# Altium footprint library CC3200.PcbLib: 26 footprints (part 1 of 2)
Each footprint in its own frame and in the unit in brackets; x right, y up, seen from the top. Pads: shape width x height; smd on the part's side, far side on the other; paste and mask are expansions set on the pad; w line width, h text height; cw(c..) or ccw(c..) is an arc to the next point about the centre after c.
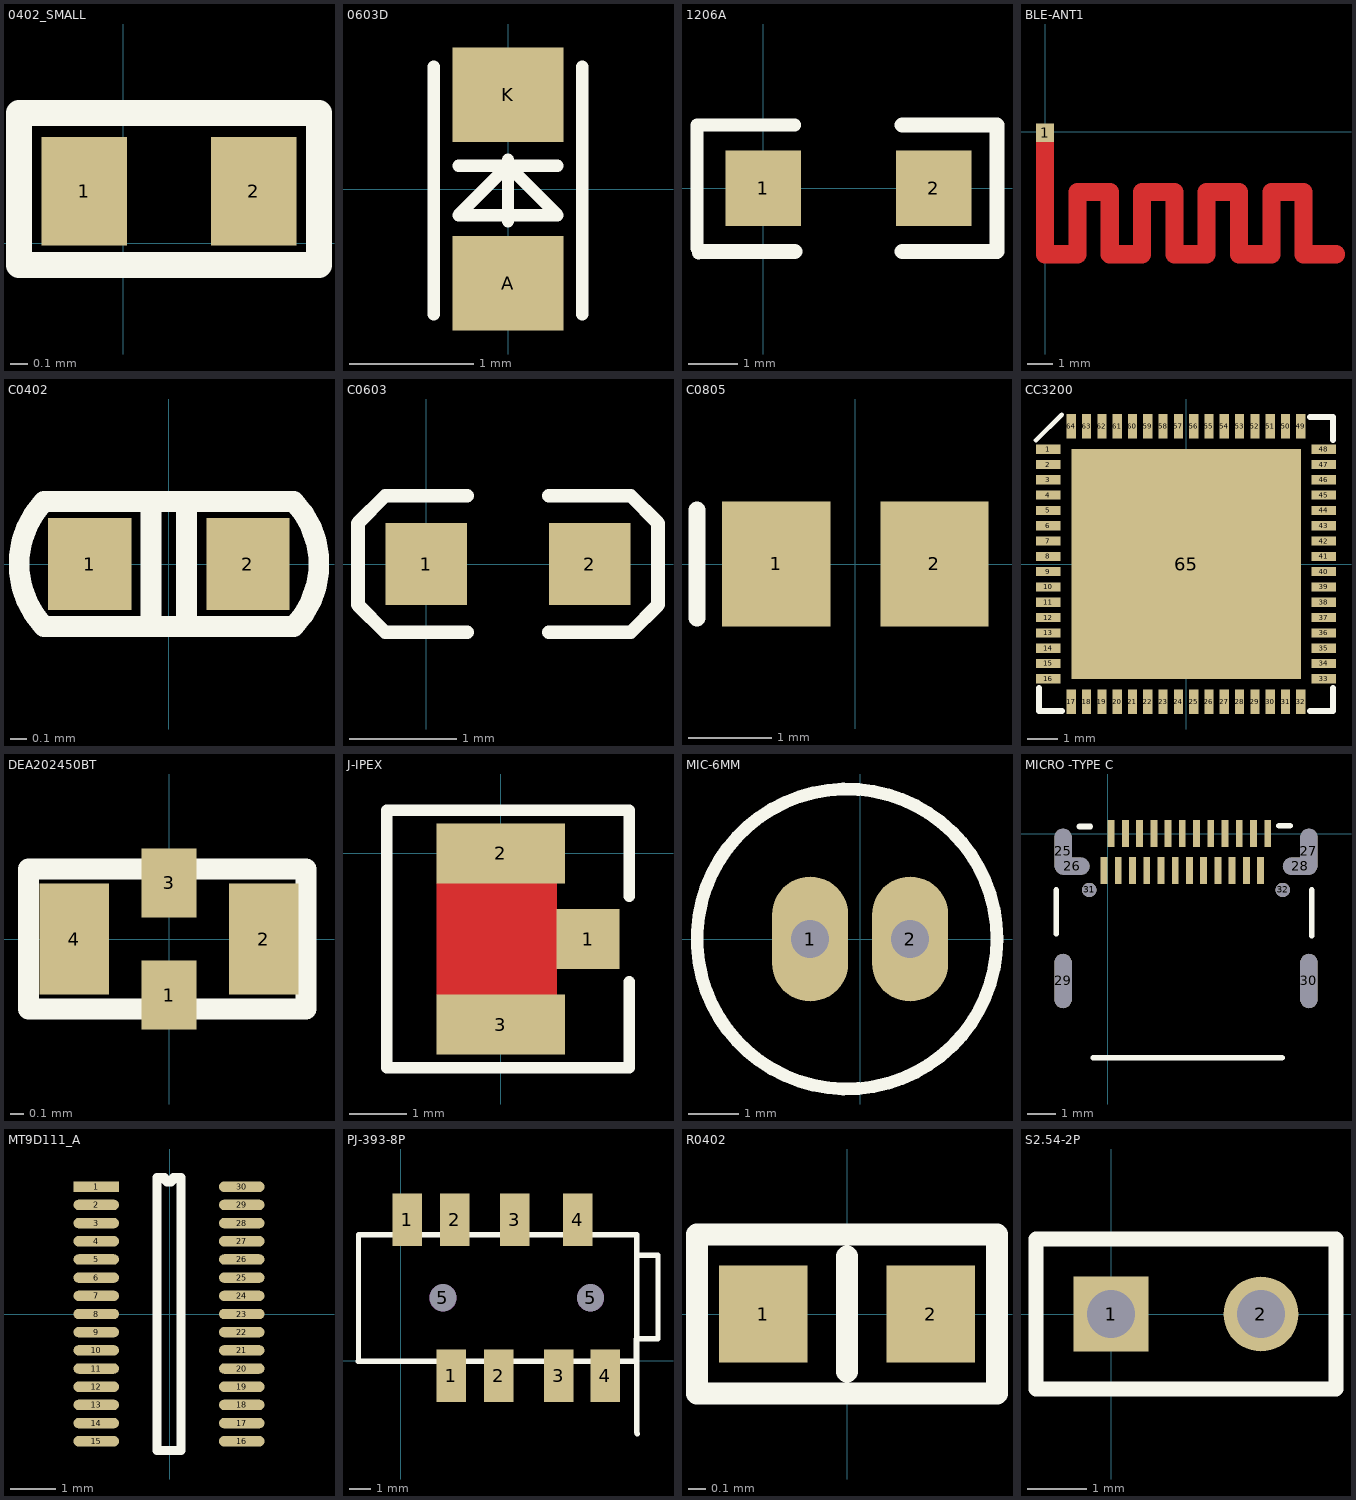
[diagram p0: the footprints below, top view; thin cyan lines are the x and y axes]

## 0402_SMALL [mil]
pads (2):
  rect 19.68x25 smd: 1(-9,12) 2(30,12)
Top Overlay:
  lines w6: 45,-4 45,30 ; 45,30 45,-5 -24,-5 -24,30 45,30

## 0603D [mil]
pads (2):
  rect 35.43x30 smd: A(0,-30) K(0,30)
Top Overlay:
  lines w3.94: -23.62,-39.81 -23.62,38.93 ; -15.75,7.43 15.75,7.43 ; 0,-10.28 0,9.4 ; 23.62,-39.81 23.62,38.93 ; -15.75,-8.31 15.75,-8.31 0,7.43 -15.75,-8.31

## 1206A [mil]
pads (2):
  rect 60x60 smd: 1(0,0) 2(135,0)
Top Overlay:
  lines w10: -52.36,-47.64 -52.36,50 -50,50 25,50 ; -51.18,-51.18 -50,-50
  lines w12: -50,-50 25,-50 ; 110,-50 185,-50 185,50 110,50

## BLE-ANT1 [mm]
pads (1):
  rect 0.7x0.7 smd: 1(0,-0.035)
Top Layer:
  lines w0.7: 0,-0.101 0,-2.321 ; 11.25,-4.734 10,-4.734 10,-2.321 8.75,-2.321 8.75,-4.734 7.5,-4.734 7.5,-2.321 6.25,-2.321 6.25,-4.734 5,-4.734 5,-2.321 3.75,-2.321 3.75,-4.734 2.5,-4.734 2.5,-2.321 1.25,-2.321 1.25,-4.734 0,-4.734 0,-2.418 ; 0,-2.418 0,-2.321 ; 0,-2.418 0,-2.321
Top Paste:
  lines w0.7: -0.001,-2.321 -0.001,-4.734 1.249,-4.734 1.249,-2.321 2.499,-2.321 2.499,-4.734 3.749,-4.734 3.749,-2.321 4.999,-2.321 4.999,-4.734 6.249,-4.734 6.249,-2.321 7.499,-2.321 7.499,-4.734 8.749,-4.734 8.749,-2.321 9.999,-2.321 9.999,-4.734 11.249,-4.734

## C0402 [mil]
pads (2):
  rect 20x22 smd: 1(-19,0) 2(19,0)
Top Overlay:
  lines w5: -4.25,-13 -4.25,13 ; 4.25,-13 4.25,13 ; -30,-15 cw(c-14.19,0) -30,15 30,15 cw(c14.47,0) 30,-15 -30,-15

## C0603 [mil]
pads (2):
  rect 30x30 smd: 1(0,0) 2(60,0)
Top Overlay:
  lines w5: 15,-25 -15,-25 -25,-15 -25,15 -15,25 15,25 ; 45,-25 75,-25 85,-15 85,15 75,25 45,25
3D body "C0603.STEP": height 11.89, standoff 0, extent -1.5,-15.5 61.5,16

## C0805 [mm] "Chip Capacitor; Body 2.0 x 1.2 mm (LxW typ)"
height 1.1
pads (2):
  rect 1.3x1.5 smd: 1(-0.95,0) 2(0.95,0)
Top Overlay:
  lines w0.2: -1.9,-0.65 -1.9,0.65

## CC3200 [mm]
pads (65):
  rect 0.8x0.3 smd: 1(-4.5,3.75) 2(-4.5,3.25) 3(-4.5,2.75) 4(-4.5,2.25) 5(-4.5,1.75) 6(-4.5,1.25) 7(-4.5,0.75) 8(-4.5,0.25) 9(-4.5,-0.25) 10(-4.5,-0.75) 11(-4.5,-1.25) 12(-4.5,-1.75) 13(-4.5,-2.25) 14(-4.5,-2.75) 15(-4.5,-3.25) 16(-4.5,-3.75) 33(4.5,-3.75) 34(4.5,-3.25) 35(4.5,-2.75) 36(4.5,-2.25) 37(4.5,-1.75) 38(4.5,-1.25) 39(4.5,-0.75) 40(4.5,-0.25) 41(4.5,0.25) 42(4.5,0.75) 43(4.5,1.25) 44(4.5,1.75) 45(4.5,2.25) 46(4.5,2.75) 47(4.5,3.25) 48(4.5,3.75)
  rect 0.3x0.8 smd: 17(-3.75,-4.5) 18(-3.25,-4.5) 19(-2.75,-4.5) 20(-2.25,-4.5) 21(-1.75,-4.5) 22(-1.25,-4.5) 23(-0.75,-4.5) 24(-0.25,-4.5) 25(0.25,-4.5) 26(0.75,-4.5) 27(1.25,-4.5) 28(1.75,-4.5) 29(2.25,-4.5) 30(2.75,-4.5) 31(3.25,-4.5) 32(3.75,-4.5) 49(3.75,4.5) 50(3.25,4.5) 51(2.75,4.5) 52(2.25,4.5) 53(1.75,4.5) 54(1.25,4.5) 55(0.75,4.5) 56(0.25,4.5) 57(-0.25,4.5) 58(-0.75,4.5) 59(-1.25,4.5) 60(-1.75,4.5) 61(-2.25,4.5) 62(-2.75,4.5) 63(-3.25,4.5) 64(-3.75,4.5)
  rect 7.5x7.5 smd: 65(0,0)
Top Overlay:
  lines w0.152: -4.902,4.039 -4.064,4.877
  lines w0.2: -4.8,-4.05 -4.8,-4.8 -4.05,-4.8 ; 4.05,-4.8 4.8,-4.8 4.8,-4.05 ; 4.05,4.8 4.8,4.8 4.8,4.05

## DEA202450BT [mm]
pads (4):
  rect 0.4x0.5 smd: 1(0,-0.406) 3(0,0.406)
  rect 0.5x0.8 smd: 2(0.686,0) 4(-0.686,0)
Top Overlay:
  lines w0.152: -1.016,0.483 -0.991,0.508 0.991,0.508 0.991,-0.508 -1.016,-0.508 -1.016,0.508

## J-IPEX [mm]
pads (3):
  rect 1.1x1.05 smd: 1(1.525,-1.5)
  rect 2.25x1.05 smd: 2(0,0) 3(0,-3)
Top Layer:
  pour cut-out: -1.125,-0.525 -1.125,-2.475 0.975,-2.475 0.975,-0.525
Top Overlay:
  lines w0.2: 2.25,-2.25 2.25,-3.75 1.5,-3.75 -2,-3.75 -2,0.75 -1.5,0.75 1.5,0.75 2.25,0.75 2.25,-0.75

## MIC-6MM [mm]
pads (2):
  oval 1.524x2.5 hole 0.762: 1(-1,0) 2(1,0)
Top Overlay:
  circle w0.254: c-0.262,0 r3

## MICRO -TYPE C [mm]
pads (32):
  oval 0.6x1.6 hole 0.6 slot 1.6 at 90 deg: 25(-1.57,-0.625) 27(7.07,-0.625)
  oval 1.2x0.6 hole 0.6 slot 1.2 at 0 deg: 26(-1.245,-1.143) 28(6.756,-1.143)
  oval 0.6x1.9 hole 0.6 slot 1.9 at 90 deg: 29(-1.57,-5.175) 30(7.07,-5.175)
  round 0.5 hole 0.5: 31(-0.65,-1.975) 32(6.15,-1.975)
  rect 0.24x0.95 smd: A1(0.12,0) A2(0.62,0) A3(1.12,0) A4(1.62,0) A5(2.12,0) A6(2.62,0) A7(3.12,0) A8(3.62,0) A9(4.12,0) A10(4.62,0) A11(5.12,0) A12(5.62,0) B1(-0.13,-1.3) B2(0.37,-1.3) B3(0.87,-1.3) B4(1.37,-1.3) B5(1.87,-1.3) B6(2.37,-1.3) B7(2.87,-1.3) B8(3.37,-1.3) B9(3.87,-1.3) B10(4.37,-1.3) B11(4.87,-1.3) B12(5.37,-1.3)
Top Overlay:
  lines w0.2: -1.803,-3.518 -1.803,-1.981 ; -0.991,0.254 -0.61,0.254 ; -0.508,-7.874 6.121,-7.874 ; 6.02,0.279 6.401,0.279 ; 7.163,-3.581 7.163,-1.981

## MT9D111_A [mm]
pads (30):
  rect 1x0.23 smd: 1(-1.611,2.8)
  oval 1x0.23 smd: 2(-1.611,2.4) 3(-1.611,2) 4(-1.611,1.6) 5(-1.611,1.2) 6(-1.611,0.8) 7(-1.611,0.4) 8(-1.611,0) 9(-1.611,-0.4) 10(-1.611,-0.8) 11(-1.611,-1.2) 12(-1.611,-1.6) 13(-1.611,-2) 14(-1.611,-2.4) 15(-1.611,-2.8) 16(1.589,-2.8) 17(1.589,-2.4) 18(1.589,-2) 19(1.589,-1.6) 20(1.589,-1.2) 21(1.589,-0.8) 22(1.589,-0.4) 23(1.589,0) 24(1.589,0.4) 25(1.589,0.8) 26(1.589,1.2) 27(1.589,1.6) 28(1.589,2) 29(1.589,2.4) 30(1.589,2.8)
Top Overlay:
  lines w0.2: -0.276,-3 -0.276,3 -0.111,3 ccw(c-0.011,3) 0.089,3 0.254,3 0.254,-3 -0.276,-3

## PJ-393-8P [mm]
pads (10):
  rect 1.4x2.5 smd: 1(0.3,6.692) 1(2.4,-0.708) 2(2.55,6.692) 2(4.65,-0.708) 3(5.4,6.692) 3(7.5,-0.708) 4(8.4,6.692) 4(9.7,-0.708)
  round 1.3 on Keep-Out hole 1.3: 5(2,2.992) 5(9,2.992)
Top Overlay:
  lines w0.254: -2.032,-0.008 11.168,-0.008 ; -2.007,-0.008 -2.007,5.992 ; -2,5.985 11.2,5.985 11.2,-3.398 ccw(c11.291,-3.398) 11.227,-3.462 ; 11.176,0.043 11.176,1.043 ; 11.201,1.059 12.2,1.059 12.2,5.021 11.201,5.021 ; 11.201,5.018 11.201,5.986

## R0402 [mil]
pads (2):
  rect 20x22 smd: 1(-19,0) 2(19,0)
Top Overlay:
  lines w5: 0,-13 0,13 ; -34,-18 34,-18 34,18 -34,18 -34,-18

## S2.54-2P [mil]
pads (2):
  rect 50x50 hole 32: 1(0,0)
  round 50 hole 32: 2(100,0)
Top Overlay:
  lines w10: -50,-50 150,-50 150,50 -50,50 -50,-50
3D body: height 100, standoff 0, extent -50,-50 150,50
3D body: height 314.96, standoff -78.74, extent -16,-16 15.37,15.43
3D body: height 314.96, standoff -78.74, extent 84,-16 115.37,15.43